# Altium integrated library capacitor_murata_0805.IntLib: 722 symbols (part 4 of 15)
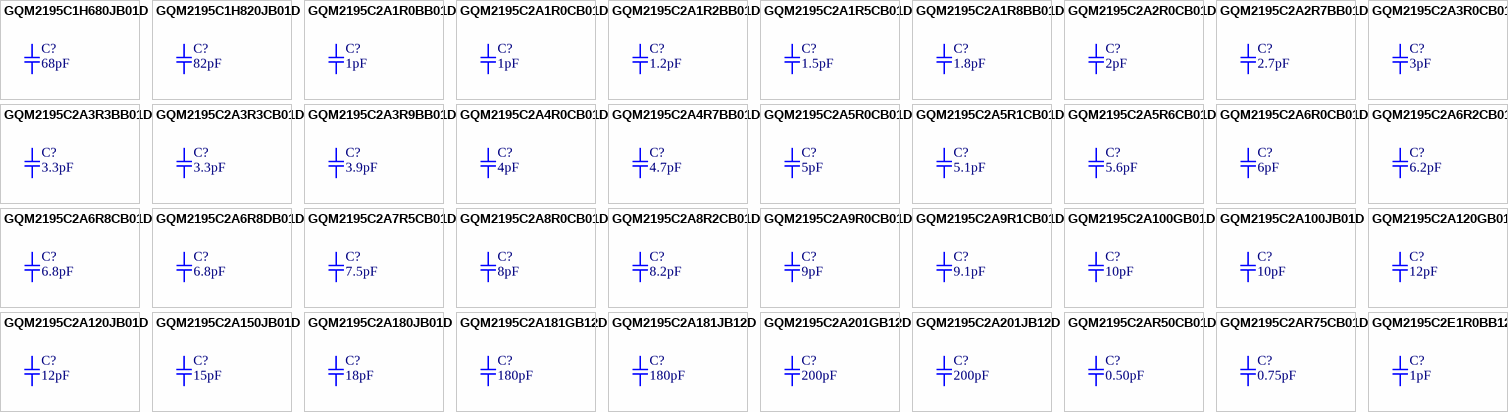
[diagram p21: symbols GQM2195C1H680JB01D to GQM2195C2E1R0BB12D]

## GQM2195C2A120JB01D
designator C?, comment 12pF
CAP CER 12PF 100V NP0 0805; Part Number: GQM2195C2A120JB01D; Manufacturer: Murata Electronics North America; Factory Stock: 0; Unit Price (USD): 0.91; Minimum Quantity: 1; Tolerance: ±5%; Temperature Coefficient: C0G, NP0; Datasheets: http://www.murata.com/~/media/webrenewal/support/library/catalog/products/capacitor/mlcc/c02e.pdf; Image: //media.digikey.com/Renders/Murata%20Renders/0805(GxM9).jpg; Digi-Key Part Number: 490-3604-1-ND; Quantity Available: 4092; @ qty: 0; Packaging: Cut Tape (CT); Series: GQM; Part Status: Active; Value: 12pF; Voltage: 100V; Operating Temperature: -55°C ~ 125°C; Features: High Q, Low Loss; Ratings: -; Applications: RF, Microwave, High Frequency; Mounting Type: Surface Mount, MLCC; Package / Case: 0805 (2012 Metric); Size / Dimension: 0.079" L x 0.049" W (2.00mm x 1.25mm); Height - Seated (Max): -; Thickness (Max): 0.037" (0.95mm); Lead Spacing: -; Lead Style: -
footprint SMD-0805C
pins: 1, 2

## GQM2195C2A150JB01D
designator C?, comment 15pF
CAP CER 15PF 100V NP0 0805; Part Number: GQM2195C2A150JB01D; Manufacturer: Murata Electronics North America; Factory Stock: 0; Unit Price (USD): 0.91; Minimum Quantity: 1; Tolerance: ±5%; Temperature Coefficient: C0G, NP0; Datasheets: http://www.murata.com/~/media/webrenewal/support/library/catalog/products/capacitor/mlcc/c02e.pdf; Image: //media.digikey.com/Renders/Murata%20Renders/0805(GxM9).jpg; Digi-Key Part Number: 490-3605-1-ND; Quantity Available: 6483; @ qty: 0; Packaging: Cut Tape (CT); Series: GQM; Part Status: Active; Value: 15pF; Voltage: 100V; Operating Temperature: -55°C ~ 125°C; Features: High Q, Low Loss; Ratings: -; Applications: RF, Microwave, High Frequency; Mounting Type: Surface Mount, MLCC; Package / Case: 0805 (2012 Metric); Size / Dimension: 0.079" L x 0.049" W (2.00mm x 1.25mm); Height - Seated (Max): -; Thickness (Max): 0.037" (0.95mm); Lead Spacing: -; Lead Style: -
footprint SMD-0805C
pins: 1, 2

## GQM2195C2A180JB01D
designator C?, comment 18pF
CAP CER 18PF 100V NP0 0805; Part Number: GQM2195C2A180JB01D; Manufacturer: Murata Electronics North America; Factory Stock: 0; Unit Price (USD): 0.91; Minimum Quantity: 1; Tolerance: ±5%; Temperature Coefficient: C0G, NP0; Datasheets: http://www.murata.com/~/media/webrenewal/support/library/catalog/products/capacitor/mlcc/c02e.pdf; Image: //media.digikey.com/Renders/Murata%20Renders/0805(GxM9).jpg; Digi-Key Part Number: 490-3606-1-ND; Quantity Available: 8724; @ qty: 0; Packaging: Cut Tape (CT); Series: GQM; Part Status: Active; Value: 18pF; Voltage: 100V; Operating Temperature: -55°C ~ 125°C; Features: High Q, Low Loss; Ratings: -; Applications: RF, Microwave, High Frequency; Mounting Type: Surface Mount, MLCC; Package / Case: 0805 (2012 Metric); Size / Dimension: 0.079" L x 0.049" W (2.00mm x 1.25mm); Height - Seated (Max): -; Thickness (Max): 0.037" (0.95mm); Lead Spacing: -; Lead Style: -
footprint SMD-0805C
pins: 1, 2

## GQM2195C2A181GB12D
designator C?, comment 180pF
CAP CER 180PF 100V NP0 0805; Part Number: GQM2195C2A181GB12D; Manufacturer: Murata Electronics North America; Factory Stock: 0; Unit Price (USD): 1.44; Minimum Quantity: 1; Tolerance: ±2%; Temperature Coefficient: C0G, NP0; Datasheets: http://www.murata.com/~/media/webrenewal/support/library/catalog/products/capacitor/mlcc/c02e.pdf; Image: //media.digikey.com/Renders/Murata%20Renders/0805(GxM9).jpg; Digi-Key Part Number: 490-7180-1-ND; Quantity Available: 7523; @ qty: 0; Packaging: Cut Tape (CT); Series: GQM; Part Status: Active; Value: 180pF; Voltage: 100V; Operating Temperature: -55°C ~ 125°C; Features: High Q, Low Loss; Ratings: -; Applications: RF, Microwave, High Frequency; Mounting Type: Surface Mount, MLCC; Package / Case: 0805 (2012 Metric); Size / Dimension: 0.079" L x 0.049" W (2.01mm x 1.25mm); Height - Seated (Max): -; Thickness (Max): 0.037" (0.95mm); Lead Spacing: -; Lead Style: -
footprint SMD-0805C
pins: 1, 2

## GQM2195C2A181JB12D
designator C?, comment 180pF
CAP CER 180PF 100V NP0 0805; Part Number: GQM2195C2A181JB12D; Manufacturer: Murata Electronics North America; Factory Stock: 0; Unit Price (USD): 0.83; Minimum Quantity: 1; Tolerance: ±5%; Temperature Coefficient: C0G, NP0; Datasheets: http://www.murata.com/~/media/webrenewal/support/library/catalog/products/capacitor/mlcc/c02e.pdf; Image: //media.digikey.com/Renders/Murata%20Renders/0805(GxM9).jpg; Digi-Key Part Number: 490-7181-1-ND; Quantity Available: 3110; @ qty: 0; Packaging: Cut Tape (CT); Series: GQM; Part Status: Active; Value: 180pF; Voltage: 100V; Operating Temperature: -55°C ~ 125°C; Features: High Q, Low Loss; Ratings: -; Applications: RF, Microwave, High Frequency; Mounting Type: Surface Mount, MLCC; Package / Case: 0805 (2012 Metric); Size / Dimension: 0.079" L x 0.049" W (2.01mm x 1.25mm); Height - Seated (Max): -; Thickness (Max): 0.037" (0.95mm); Lead Spacing: -; Lead Style: -
footprint SMD-0805C
pins: 1, 2

## GQM2195C2A201GB12D
designator C?, comment 200pF
CAP CER 200PF 100V NP0 0805; Part Number: GQM2195C2A201GB12D; Manufacturer: Murata Electronics North America; Factory Stock: 0; Unit Price (USD): 1.44; Minimum Quantity: 1; Tolerance: ±2%; Temperature Coefficient: C0G, NP0; Datasheets: http://www.murata.com/~/media/webrenewal/support/library/catalog/products/capacitor/mlcc/c02e.pdf; Image: //media.digikey.com/Renders/Murata%20Renders/0805(GxM9).jpg; Digi-Key Part Number: 490-7182-1-ND; Quantity Available: 6063; @ qty: 0; Packaging: Cut Tape (CT); Series: GQM; Part Status: Active; Value: 200pF; Voltage: 100V; Operating Temperature: -55°C ~ 125°C; Features: High Q, Low Loss; Ratings: -; Applications: RF, Microwave, High Frequency; Mounting Type: Surface Mount, MLCC; Package / Case: 0805 (2012 Metric); Size / Dimension: 0.079" L x 0.049" W (2.01mm x 1.25mm); Height - Seated (Max): -; Thickness (Max): 0.037" (0.95mm); Lead Spacing: -; Lead Style: -
footprint SMD-0805C
pins: 1, 2

## GQM2195C2A201JB12D
designator C?, comment 200pF
CAP CER 200PF 100V NP0 0805; Part Number: GQM2195C2A201JB12D; Manufacturer: Murata Electronics North America; Factory Stock: 0; Unit Price (USD): 0.83; Minimum Quantity: 1; Tolerance: ±5%; Temperature Coefficient: C0G, NP0; Datasheets: http://www.murata.com/~/media/webrenewal/support/library/catalog/products/capacitor/mlcc/c02e.pdf; Image: //media.digikey.com/Renders/Murata%20Renders/0805(GxM9).jpg; Digi-Key Part Number: 490-7183-1-ND; Quantity Available: 6661; @ qty: 0; Packaging: Cut Tape (CT); Series: GQM; Part Status: Active; Value: 200pF; Voltage: 100V; Operating Temperature: -55°C ~ 125°C; Features: High Q, Low Loss; Ratings: -; Applications: RF, Microwave, High Frequency; Mounting Type: Surface Mount, MLCC; Package / Case: 0805 (2012 Metric); Size / Dimension: 0.079" L x 0.049" W (2.01mm x 1.25mm); Height - Seated (Max): -; Thickness (Max): 0.037" (0.95mm); Lead Spacing: -; Lead Style: -
footprint SMD-0805C
pins: 1, 2

## GQM2195C2AR50CB01D
designator C?, comment 0.50pF
CAP CER 0.5PF 100V NP0 0805; Part Number: GQM2195C2AR50CB01D; Manufacturer: Murata Electronics North America; Factory Stock: 0; Unit Price (USD): 0.71; Minimum Quantity: 1; Tolerance: ±0.25pF; Temperature Coefficient: C0G, NP0; Datasheets: http://www.murata.com/~/media/webrenewal/support/library/catalog/products/capacitor/mlcc/c02e.pdf; Image: //media.digikey.com/Renders/Murata%20Renders/0805(GxM9).jpg; Digi-Key Part Number: 490-3584-1-ND; Quantity Available: 1289; @ qty: 0; Packaging: Cut Tape (CT); Series: GQM; Part Status: Active; Value: 0.50pF; Voltage: 100V; Operating Temperature: -55°C ~ 125°C; Features: High Q, Low Loss; Ratings: -; Applications: RF, Microwave, High Frequency; Mounting Type: Surface Mount, MLCC; Package / Case: 0805 (2012 Metric); Size / Dimension: 0.079" L x 0.049" W (2.00mm x 1.25mm); Height - Seated (Max): -; Thickness (Max): 0.037" (0.95mm); Lead Spacing: -; Lead Style: -
footprint SMD-0805C
pins: 1, 2

## GQM2195C2AR75CB01D
designator C?, comment 0.75pF
CAP CER 0.75PF 100V NP0 0805; Part Number: GQM2195C2AR75CB01D; Manufacturer: Murata Electronics North America; Factory Stock: 0; Unit Price (USD): 0.71; Minimum Quantity: 1; Tolerance: ±0.25pF; Temperature Coefficient: C0G, NP0; Datasheets: http://www.murata.com/~/media/webrenewal/support/library/catalog/products/capacitor/mlcc/c02e.pdf; Image: //media.digikey.com/Renders/Murata%20Renders/0805(GxM9).jpg; Digi-Key Part Number: 490-3585-1-ND; Quantity Available: 7492; @ qty: 0; Packaging: Cut Tape (CT); Series: GQM; Part Status: Active; Value: 0.75pF; Voltage: 100V; Operating Temperature: -55°C ~ 125°C; Features: High Q, Low Loss; Ratings: -; Applications: RF, Microwave, High Frequency; Mounting Type: Surface Mount, MLCC; Package / Case: 0805 (2012 Metric); Size / Dimension: 0.079" L x 0.049" W (2.00mm x 1.25mm); Height - Seated (Max): -; Thickness (Max): 0.037" (0.95mm); Lead Spacing: -; Lead Style: -
footprint SMD-0805C
pins: 1, 2

## GQM2195C2E1R0BB12D
designator C?, comment 1pF
CAP CER 1PF 250V NP0 0805; Part Number: GQM2195C2E1R0BB12D; Manufacturer: Murata Electronics North America; Factory Stock: 0; Unit Price (USD): 1.37; Minimum Quantity: 1; Tolerance: ±0.1pF; Temperature Coefficient: C0G, NP0; Datasheets: http://www.murata.com/~/media/webrenewal/support/library/catalog/products/capacitor/mlcc/c02e.pdf; Image: //media.digikey.com/Renders/Murata%20Renders/0805(GxM9).jpg; Digi-Key Part Number: 490-5280-1-ND; Quantity Available: 9090; @ qty: 0; Packaging: Cut Tape (CT); Series: GQM; Part Status: Active; Value: 1pF; Voltage: 250V; Operating Temperature: -55°C ~ 125°C; Features: High Q, Low Loss; Ratings: -; Applications: RF, Microwave, High Frequency; Mounting Type: Surface Mount, MLCC; Package / Case: 0805 (2012 Metric); Size / Dimension: 0.079" L x 0.049" W (2.00mm x 1.25mm); Height - Seated (Max): -; Thickness (Max): 0.039" (1.00mm); Lead Spacing: -; Lead Style: -
footprint SMD-0805C
pins: 1, 2

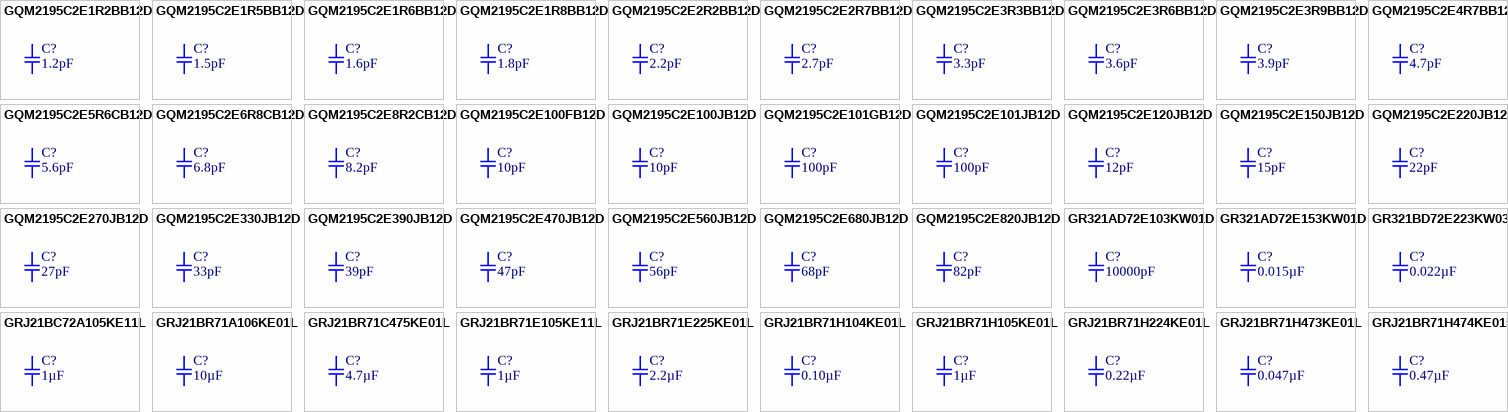
[diagram p4: symbols GQM2195C2E1R2BB12D to GRJ21BR71H474KE01L]

## GQM2195C2E1R2BB12D
designator C?, comment 1.2pF
CAP CER 1.2PF 250V NP0 0805; Part Number: GQM2195C2E1R2BB12D; Manufacturer: Murata Electronics North America; Factory Stock: 0; Unit Price (USD): 1.37; Minimum Quantity: 1; Tolerance: ±0.1pF; Temperature Coefficient: C0G, NP0; Datasheets: http://www.murata.com/~/media/webrenewal/support/library/catalog/products/capacitor/mlcc/c02e.pdf; Image: //media.digikey.com/Renders/Murata%20Renders/0805(GxM9).jpg; Digi-Key Part Number: 490-5281-1-ND; Quantity Available: 9953; @ qty: 0; Packaging: Cut Tape (CT); Series: GQM; Part Status: Active; Value: 1.2pF; Voltage: 250V; Operating Temperature: -55°C ~ 125°C; Features: High Q, Low Loss; Ratings: -; Applications: RF, Microwave, High Frequency; Mounting Type: Surface Mount, MLCC; Package / Case: 0805 (2012 Metric); Size / Dimension: 0.079" L x 0.049" W (2.00mm x 1.25mm); Height - Seated (Max): -; Thickness (Max): 0.039" (1.00mm); Lead Spacing: -; Lead Style: -
footprint SMD-0805C
pins: 1, 2

## GQM2195C2E1R5BB12D
designator C?, comment 1.5pF
CAP CER 1.5PF 250V NP0 0805; Part Number: GQM2195C2E1R5BB12D; Manufacturer: Murata Electronics North America; Factory Stock: 0; Unit Price (USD): 1.37; Minimum Quantity: 1; Tolerance: ±0.1pF; Temperature Coefficient: C0G, NP0; Datasheets: http://www.murata.com/~/media/webrenewal/support/library/catalog/products/capacitor/mlcc/c02e.pdf; Image: //media.digikey.com/Renders/Murata%20Renders/0805(GxM9).jpg; Digi-Key Part Number: 490-5282-1-ND; Quantity Available: 5947; @ qty: 0; Packaging: Cut Tape (CT); Series: GQM; Part Status: Active; Value: 1.5pF; Voltage: 250V; Operating Temperature: -55°C ~ 125°C; Features: High Q, Low Loss; Ratings: -; Applications: RF, Microwave, High Frequency; Mounting Type: Surface Mount, MLCC; Package / Case: 0805 (2012 Metric); Size / Dimension: 0.079" L x 0.049" W (2.00mm x 1.25mm); Height - Seated (Max): -; Thickness (Max): 0.039" (1.00mm); Lead Spacing: -; Lead Style: -
footprint SMD-0805C
pins: 1, 2

## GQM2195C2E1R6BB12D
designator C?, comment 1.6pF
CAP CER 1.6PF 250V NP0 0805; Part Number: GQM2195C2E1R6BB12D; Manufacturer: Murata Electronics North America; Factory Stock: 0; Unit Price (USD): 1.37; Minimum Quantity: 1; Tolerance: ±0.1pF; Temperature Coefficient: C0G, NP0; Datasheets: http://www.murata.com/~/media/webrenewal/support/library/catalog/products/capacitor/mlcc/c02e.pdf; Image: //media.digikey.com/Renders/Murata%20Renders/0805(GxM9).jpg; Digi-Key Part Number: 490-5283-1-ND; Quantity Available: 3457; @ qty: 0; Packaging: Cut Tape (CT); Series: GQM; Part Status: Active; Value: 1.6pF; Voltage: 250V; Operating Temperature: -55°C ~ 125°C; Features: High Q, Low Loss; Ratings: -; Applications: RF, Microwave, High Frequency; Mounting Type: Surface Mount, MLCC; Package / Case: 0805 (2012 Metric); Size / Dimension: 0.079" L x 0.049" W (2.00mm x 1.25mm); Height - Seated (Max): -; Thickness (Max): 0.039" (1.00mm); Lead Spacing: -; Lead Style: -
footprint SMD-0805C
pins: 1, 2

## GQM2195C2E1R8BB12D
designator C?, comment 1.8pF
CAP CER 1.8PF 250V NP0 0805; Part Number: GQM2195C2E1R8BB12D; Manufacturer: Murata Electronics North America; Factory Stock: 0; Unit Price (USD): 1.37; Minimum Quantity: 1; Tolerance: ±0.1pF; Temperature Coefficient: C0G, NP0; Datasheets: http://www.murata.com/~/media/webrenewal/support/library/catalog/products/capacitor/mlcc/c02e.pdf; Image: //media.digikey.com/Renders/Murata%20Renders/0805(GxM9).jpg; Digi-Key Part Number: 490-5284-1-ND; Quantity Available: 7081; @ qty: 0; Packaging: Cut Tape (CT); Series: GQM; Part Status: Active; Value: 1.8pF; Voltage: 250V; Operating Temperature: -55°C ~ 125°C; Features: High Q, Low Loss; Ratings: -; Applications: RF, Microwave, High Frequency; Mounting Type: Surface Mount, MLCC; Package / Case: 0805 (2012 Metric); Size / Dimension: 0.079" L x 0.049" W (2.00mm x 1.25mm); Height - Seated (Max): -; Thickness (Max): 0.039" (1.00mm); Lead Spacing: -; Lead Style: -
footprint SMD-0805C
pins: 1, 2

## GQM2195C2E2R2BB12D
designator C?, comment 2.2pF
CAP CER 2.2PF 250V NP0 0805; Part Number: GQM2195C2E2R2BB12D; Manufacturer: Murata Electronics North America; Factory Stock: 0; Unit Price (USD): 1.37; Minimum Quantity: 1; Tolerance: ±0.1pF; Temperature Coefficient: C0G, NP0; Datasheets: http://www.murata.com/~/media/webrenewal/support/library/catalog/products/capacitor/mlcc/c02e.pdf; Image: //media.digikey.com/Renders/Murata%20Renders/0805(GxM9).jpg; Digi-Key Part Number: 490-5285-1-ND; Quantity Available: 3672; @ qty: 0; Packaging: Cut Tape (CT); Series: GQM; Part Status: Active; Value: 2.2pF; Voltage: 250V; Operating Temperature: -55°C ~ 125°C; Features: High Q, Low Loss; Ratings: -; Applications: RF, Microwave, High Frequency; Mounting Type: Surface Mount, MLCC; Package / Case: 0805 (2012 Metric); Size / Dimension: 0.079" L x 0.049" W (2.00mm x 1.25mm); Height - Seated (Max): -; Thickness (Max): 0.039" (1.00mm); Lead Spacing: -; Lead Style: -
footprint SMD-0805C
pins: 1, 2

## GQM2195C2E2R7BB12D
designator C?, comment 2.7pF
CAP CER 2.7PF 250V NP0 0805; Part Number: GQM2195C2E2R7BB12D; Manufacturer: Murata Electronics North America; Factory Stock: 0; Unit Price (USD): 1.37; Minimum Quantity: 1; Tolerance: ±0.1pF; Temperature Coefficient: C0G, NP0; Datasheets: http://www.murata.com/~/media/webrenewal/support/library/catalog/products/capacitor/mlcc/c02e.pdf; Image: //media.digikey.com/Renders/Murata%20Renders/0805(GxM9).jpg; Digi-Key Part Number: 490-5286-1-ND; Quantity Available: 12077; @ qty: 0; Packaging: Cut Tape (CT); Series: GQM; Part Status: Active; Value: 2.7pF; Voltage: 250V; Operating Temperature: -55°C ~ 125°C; Features: High Q, Low Loss; Ratings: -; Applications: RF, Microwave, High Frequency; Mounting Type: Surface Mount, MLCC; Package / Case: 0805 (2012 Metric); Size / Dimension: 0.079" L x 0.049" W (2.00mm x 1.25mm); Height - Seated (Max): -; Thickness (Max): 0.039" (1.00mm); Lead Spacing: -; Lead Style: -
footprint SMD-0805C
pins: 1, 2

## GQM2195C2E3R3BB12D
designator C?, comment 3.3pF
CAP CER 3.3PF 250V NP0 0805; Part Number: GQM2195C2E3R3BB12D; Manufacturer: Murata Electronics North America; Factory Stock: 0; Unit Price (USD): 1.37; Minimum Quantity: 1; Tolerance: ±0.1pF; Temperature Coefficient: C0G, NP0; Datasheets: http://www.murata.com/~/media/webrenewal/support/library/catalog/products/capacitor/mlcc/c02e.pdf; Image: //media.digikey.com/Renders/Murata%20Renders/0805(GxM9).jpg; Digi-Key Part Number: 490-5287-1-ND; Quantity Available: 12014; @ qty: 0; Packaging: Cut Tape (CT); Series: GQM; Part Status: Active; Value: 3.3pF; Voltage: 250V; Operating Temperature: -55°C ~ 125°C; Features: High Q, Low Loss; Ratings: -; Applications: RF, Microwave, High Frequency; Mounting Type: Surface Mount, MLCC; Package / Case: 0805 (2012 Metric); Size / Dimension: 0.079" L x 0.049" W (2.00mm x 1.25mm); Height - Seated (Max): -; Thickness (Max): 0.039" (1.00mm); Lead Spacing: -; Lead Style: -
footprint SMD-0805C
pins: 1, 2

## GQM2195C2E3R6BB12D
designator C?, comment 3.6pF
CAP CER 3.6PF 250V NP0 0805; Part Number: GQM2195C2E3R6BB12D; Manufacturer: Murata Electronics North America; Factory Stock: 0; Unit Price (USD): 1.37; Minimum Quantity: 1; Tolerance: ±0.1pF; Temperature Coefficient: C0G, NP0; Datasheets: http://www.murata.com/~/media/webrenewal/support/library/catalog/products/capacitor/mlcc/c02e.pdf; Image: //media.digikey.com/Renders/Murata%20Renders/0805(GxM9).jpg; Digi-Key Part Number: 490-5288-1-ND; Quantity Available: 4695; @ qty: 0; Packaging: Cut Tape (CT); Series: GQM; Part Status: Active; Value: 3.6pF; Voltage: 250V; Operating Temperature: -55°C ~ 125°C; Features: High Q, Low Loss; Ratings: -; Applications: RF, Microwave, High Frequency; Mounting Type: Surface Mount, MLCC; Package / Case: 0805 (2012 Metric); Size / Dimension: 0.079" L x 0.049" W (2.00mm x 1.25mm); Height - Seated (Max): -; Thickness (Max): 0.039" (1.00mm); Lead Spacing: -; Lead Style: -
footprint SMD-0805C
pins: 1, 2

## GQM2195C2E3R9BB12D
designator C?, comment 3.9pF
CAP CER 3.9PF 250V NP0 0805; Part Number: GQM2195C2E3R9BB12D; Manufacturer: Murata Electronics North America; Factory Stock: 0; Unit Price (USD): 1.37; Minimum Quantity: 1; Tolerance: ±0.1pF; Temperature Coefficient: C0G, NP0; Datasheets: http://www.murata.com/~/media/webrenewal/support/library/catalog/products/capacitor/mlcc/c02e.pdf; Image: //media.digikey.com/Renders/Murata%20Renders/0805(GxM9).jpg; Digi-Key Part Number: 490-5289-1-ND; Quantity Available: 3639; @ qty: 0; Packaging: Cut Tape (CT); Series: GQM; Part Status: Active; Value: 3.9pF; Voltage: 250V; Operating Temperature: -55°C ~ 125°C; Features: High Q, Low Loss; Ratings: -; Applications: RF, Microwave, High Frequency; Mounting Type: Surface Mount, MLCC; Package / Case: 0805 (2012 Metric); Size / Dimension: 0.079" L x 0.049" W (2.00mm x 1.25mm); Height - Seated (Max): -; Thickness (Max): 0.039" (1.00mm); Lead Spacing: -; Lead Style: -
footprint SMD-0805C
pins: 1, 2

## GQM2195C2E4R7BB12D
designator C?, comment 4.7pF
CAP CER 4.7PF 250V NP0 0805; Part Number: GQM2195C2E4R7BB12D; Manufacturer: Murata Electronics North America; Factory Stock: 0; Unit Price (USD): 1.37; Minimum Quantity: 1; Tolerance: ±0.1pF; Temperature Coefficient: C0G, NP0; Datasheets: http://www.murata.com/~/media/webrenewal/support/library/catalog/products/capacitor/mlcc/c02e.pdf; Image: //media.digikey.com/Renders/Murata%20Renders/0805(GxM9).jpg; Digi-Key Part Number: 490-5290-1-ND; Quantity Available: 5380; @ qty: 0; Packaging: Cut Tape (CT); Series: GQM; Part Status: Active; Value: 4.7pF; Voltage: 250V; Operating Temperature: -55°C ~ 125°C; Features: High Q, Low Loss; Ratings: -; Applications: RF, Microwave, High Frequency; Mounting Type: Surface Mount, MLCC; Package / Case: 0805 (2012 Metric); Size / Dimension: 0.079" L x 0.049" W (2.00mm x 1.25mm); Height - Seated (Max): -; Thickness (Max): 0.039" (1.00mm); Lead Spacing: -; Lead Style: -
footprint SMD-0805C
pins: 1, 2

## GQM2195C2E5R6CB12D
designator C?, comment 5.6pF
CAP CER 5.6PF 250V NP0 0805; Part Number: GQM2195C2E5R6CB12D; Manufacturer: Murata Electronics North America; Factory Stock: 0; Unit Price (USD): 0.92; Minimum Quantity: 1; Tolerance: ±0.25pF; Temperature Coefficient: C0G, NP0; Datasheets: http://www.murata.com/~/media/webrenewal/support/library/catalog/products/capacitor/mlcc/c02e.pdf; Image: //media.digikey.com/Renders/Murata%20Renders/0805(GxM9).jpg; Digi-Key Part Number: 490-5291-1-ND; Quantity Available: 6165; @ qty: 0; Packaging: Cut Tape (CT); Series: GQM; Part Status: Active; Value: 5.6pF; Voltage: 250V; Operating Temperature: -55°C ~ 125°C; Features: High Q, Low Loss; Ratings: -; Applications: RF, Microwave, High Frequency; Mounting Type: Surface Mount, MLCC; Package / Case: 0805 (2012 Metric); Size / Dimension: 0.079" L x 0.049" W (2.00mm x 1.25mm); Height - Seated (Max): -; Thickness (Max): 0.039" (1.00mm); Lead Spacing: -; Lead Style: -
footprint SMD-0805C
pins: 1, 2

## GQM2195C2E6R8CB12D
designator C?, comment 6.8pF
CAP CER 6.8PF 250V NP0 0805; Part Number: GQM2195C2E6R8CB12D; Manufacturer: Murata Electronics North America; Factory Stock: 0; Unit Price (USD): 0.92; Minimum Quantity: 1; Tolerance: ±0.25pF; Temperature Coefficient: C0G, NP0; Datasheets: http://www.murata.com/~/media/webrenewal/support/library/catalog/products/capacitor/mlcc/c02e.pdf; Image: //media.digikey.com/Renders/Murata%20Renders/0805(GxM9).jpg; Digi-Key Part Number: 490-5292-1-ND; Quantity Available: 10344; @ qty: 0; Packaging: Cut Tape (CT); Series: GQM; Part Status: Active; Value: 6.8pF; Voltage: 250V; Operating Temperature: -55°C ~ 125°C; Features: High Q, Low Loss; Ratings: -; Applications: RF, Microwave, High Frequency; Mounting Type: Surface Mount, MLCC; Package / Case: 0805 (2012 Metric); Size / Dimension: 0.079" L x 0.049" W (2.00mm x 1.25mm); Height - Seated (Max): -; Thickness (Max): 0.039" (1.00mm); Lead Spacing: -; Lead Style: -
footprint SMD-0805C
pins: 1, 2

## GQM2195C2E8R2CB12D
designator C?, comment 8.2pF
CAP CER 8.2PF 250V NP0 0805; Part Number: GQM2195C2E8R2CB12D; Manufacturer: Murata Electronics North America; Factory Stock: 0; Unit Price (USD): 1.01; Minimum Quantity: 1; Tolerance: ±0.25pF; Temperature Coefficient: C0G, NP0; Datasheets: http://www.murata.com/~/media/webrenewal/support/library/catalog/products/capacitor/mlcc/c02e.pdf; Image: //media.digikey.com/Renders/Murata%20Renders/0805(GxM9).jpg; Digi-Key Part Number: 490-5293-1-ND; Quantity Available: 8361; @ qty: 0; Packaging: Cut Tape (CT); Series: GQM; Part Status: Active; Value: 8.2pF; Voltage: 250V; Operating Temperature: -55°C ~ 125°C; Features: High Q, Low Loss; Ratings: -; Applications: RF, Microwave, High Frequency; Mounting Type: Surface Mount, MLCC; Package / Case: 0805 (2012 Metric); Size / Dimension: 0.079" L x 0.049" W (2.00mm x 1.25mm); Height - Seated (Max): -; Thickness (Max): 0.039" (1.00mm); Lead Spacing: -; Lead Style: -
footprint SMD-0805C
pins: 1, 2

## GQM2195C2E100FB12D
designator C?, comment 10pF
CAP CER 10PF 250V NP0 0805; Part Number: GQM2195C2E100FB12D; Manufacturer: Murata Electronics North America; Factory Stock: 0; Unit Price (USD): 1.49; Minimum Quantity: 1; Tolerance: ±1%; Temperature Coefficient: C0G, NP0; Datasheets: http://www.murata.com/~/media/webrenewal/support/library/catalog/products/capacitor/mlcc/c02e.pdf; Image: //media.digikey.com/Renders/Murata%20Renders/0805(GxM9).jpg; Digi-Key Part Number: 490-11280-1-ND; Quantity Available: 1742; @ qty: 0; Packaging: Cut Tape (CT); Series: GQM; Part Status: Active; Value: 10pF; Voltage: 250V; Operating Temperature: -55°C ~ 125°C; Features: High Q, Low Loss; Ratings: -; Applications: RF, Microwave, High Frequency; Mounting Type: Surface Mount, MLCC; Package / Case: 0805 (2012 Metric); Size / Dimension: 0.079" L x 0.049" W (2.00mm x 1.25mm); Height - Seated (Max): -; Thickness (Max): 0.037" (0.95mm); Lead Spacing: -; Lead Style: -
footprint SMD-0805C
pins: 1, 2

## GQM2195C2E100JB12D
designator C?, comment 10pF
CAP CER 10PF 250V NP0 0805; Part Number: GQM2195C2E100JB12D; Manufacturer: Murata Electronics North America; Factory Stock: 0; Unit Price (USD): 1.01; Minimum Quantity: 1; Tolerance: ±5%; Temperature Coefficient: C0G, NP0; Datasheets: http://www.murata.com/~/media/webrenewal/support/library/catalog/products/capacitor/mlcc/c02e.pdf; Image: //media.digikey.com/Renders/Murata%20Renders/0805(GxM9).jpg; Digi-Key Part Number: 490-5294-1-ND; Quantity Available: 1713; @ qty: 0; Packaging: Cut Tape (CT); Series: GQM; Part Status: Active; Value: 10pF; Voltage: 250V; Operating Temperature: -55°C ~ 125°C; Features: High Q, Low Loss; Ratings: -; Applications: RF, Microwave, High Frequency; Mounting Type: Surface Mount, MLCC; Package / Case: 0805 (2012 Metric); Size / Dimension: 0.079" L x 0.049" W (2.00mm x 1.25mm); Height - Seated (Max): -; Thickness (Max): 0.039" (1.00mm); Lead Spacing: -; Lead Style: -
footprint SMD-0805C
pins: 1, 2

## GQM2195C2E101GB12D
designator C?, comment 100pF
CAP CER 100PF 250V NP0 0805; Part Number: GQM2195C2E101GB12D; Manufacturer: Murata Electronics North America; Factory Stock: 0; Unit Price (USD): 2.31; Minimum Quantity: 1; Tolerance: ±2%; Temperature Coefficient: C0G, NP0; Datasheets: http://www.murata.com/~/media/webrenewal/support/library/catalog/products/capacitor/mlcc/c02e.pdf; Image: //media.digikey.com/Renders/Murata%20Renders/0805(GxM9).jpg; Digi-Key Part Number: 490-12671-1-ND; Quantity Available: 40; @ qty: 0; Packaging: Cut Tape (CT); Series: GQM; Part Status: Active; Value: 100pF; Voltage: 250V; Operating Temperature: -55°C ~ 125°C; Features: High Q, Low Loss; Ratings: -; Applications: RF, Microwave, High Frequency; Mounting Type: Surface Mount, MLCC; Package / Case: 0805 (2012 Metric); Size / Dimension: 0.079" L x 0.049" W (2.00mm x 1.25mm); Height - Seated (Max): -; Thickness (Max): 0.039" (1.00mm); Lead Spacing: -; Lead Style: -
footprint SMD-0805C
pins: 1, 2

## GQM2195C2E101JB12D
designator C?, comment 100pF
CAP CER 100PF 250V NP0 0805; Part Number: GQM2195C2E101JB12D; Manufacturer: Murata Electronics North America; Factory Stock: 0; Unit Price (USD): 1.19; Minimum Quantity: 1; Tolerance: ±5%; Temperature Coefficient: C0G, NP0; Datasheets: http://www.murata.com/~/media/webrenewal/support/library/catalog/products/capacitor/mlcc/c02e.pdf; Image: //media.digikey.com/Renders/Murata%20Renders/0805(GxM9).jpg; Digi-Key Part Number: 490-5306-1-ND; Quantity Available: 5263; @ qty: 0; Packaging: Cut Tape (CT); Series: GQM; Part Status: Active; Value: 100pF; Voltage: 250V; Operating Temperature: -55°C ~ 125°C; Features: High Q, Low Loss; Ratings: -; Applications: RF, Microwave, High Frequency; Mounting Type: Surface Mount, MLCC; Package / Case: 0805 (2012 Metric); Size / Dimension: 0.079" L x 0.049" W (2.00mm x 1.25mm); Height - Seated (Max): -; Thickness (Max): 0.039" (1.00mm); Lead Spacing: -; Lead Style: -
footprint SMD-0805C
pins: 1, 2

## GQM2195C2E120JB12D
designator C?, comment 12pF
CAP CER 12PF 250V NP0 0805; Part Number: GQM2195C2E120JB12D; Manufacturer: Murata Electronics North America; Factory Stock: 0; Unit Price (USD): 1.19; Minimum Quantity: 1; Tolerance: ±5%; Temperature Coefficient: C0G, NP0; Datasheets: http://www.murata.com/~/media/webrenewal/support/library/catalog/products/capacitor/mlcc/c02e.pdf; Image: //media.digikey.com/Renders/Murata%20Renders/0805(GxM9).jpg; Digi-Key Part Number: 490-5295-1-ND; Quantity Available: 2195; @ qty: 0; Packaging: Cut Tape (CT); Series: GQM; Part Status: Active; Value: 12pF; Voltage: 250V; Operating Temperature: -55°C ~ 125°C; Features: High Q, Low Loss; Ratings: -; Applications: RF, Microwave, High Frequency; Mounting Type: Surface Mount, MLCC; Package / Case: 0805 (2012 Metric); Size / Dimension: 0.079" L x 0.049" W (2.00mm x 1.25mm); Height - Seated (Max): -; Thickness (Max): 0.039" (1.00mm); Lead Spacing: -; Lead Style: -
footprint SMD-0805C
pins: 1, 2

## GQM2195C2E150JB12D
designator C?, comment 15pF
CAP CER 15PF 250V NP0 0805; Part Number: GQM2195C2E150JB12D; Manufacturer: Murata Electronics North America; Factory Stock: 0; Unit Price (USD): 1.19; Minimum Quantity: 1; Tolerance: ±5%; Temperature Coefficient: C0G, NP0; Datasheets: http://www.murata.com/~/media/webrenewal/support/library/catalog/products/capacitor/mlcc/c02e.pdf; Image: //media.digikey.com/Renders/Murata%20Renders/0805(GxM9).jpg; Digi-Key Part Number: 490-5296-1-ND; Quantity Available: 2809; @ qty: 0; Packaging: Cut Tape (CT); Series: GQM; Part Status: Active; Value: 15pF; Voltage: 250V; Operating Temperature: -55°C ~ 125°C; Features: High Q, Low Loss; Ratings: -; Applications: RF, Microwave, High Frequency; Mounting Type: Surface Mount, MLCC; Package / Case: 0805 (2012 Metric); Size / Dimension: 0.079" L x 0.049" W (2.00mm x 1.25mm); Height - Seated (Max): -; Thickness (Max): 0.039" (1.00mm); Lead Spacing: -; Lead Style: -
footprint SMD-0805C
pins: 1, 2

## GQM2195C2E220JB12D
designator C?, comment 22pF
CAP CER 22PF 250V NP0 0805; Part Number: GQM2195C2E220JB12D; Manufacturer: Murata Electronics North America; Factory Stock: 0; Unit Price (USD): 1.19; Minimum Quantity: 1; Tolerance: ±5%; Temperature Coefficient: C0G, NP0; Datasheets: http://www.murata.com/~/media/webrenewal/support/library/catalog/products/capacitor/mlcc/c02e.pdf; Image: //media.digikey.com/Renders/Murata%20Renders/0805(GxM9).jpg; Digi-Key Part Number: 490-5298-1-ND; Quantity Available: 4877; @ qty: 0; Packaging: Cut Tape (CT); Series: GQM; Part Status: Active; Value: 22pF; Voltage: 250V; Operating Temperature: -55°C ~ 125°C; Features: High Q, Low Loss; Ratings: -; Applications: RF, Microwave, High Frequency; Mounting Type: Surface Mount, MLCC; Package / Case: 0805 (2012 Metric); Size / Dimension: 0.079" L x 0.049" W (2.00mm x 1.25mm); Height - Seated (Max): -; Thickness (Max): 0.039" (1.00mm); Lead Spacing: -; Lead Style: -
footprint SMD-0805C
pins: 1, 2

## GQM2195C2E270JB12D
designator C?, comment 27pF
CAP CER 27PF 250V NP0 0805; Part Number: GQM2195C2E270JB12D; Manufacturer: Murata Electronics North America; Factory Stock: 0; Unit Price (USD): 1.19; Minimum Quantity: 1; Tolerance: ±5%; Temperature Coefficient: C0G, NP0; Datasheets: http://www.murata.com/~/media/webrenewal/support/library/catalog/products/capacitor/mlcc/c02e.pdf; Image: //media.digikey.com/Renders/Murata%20Renders/0805(GxM9).jpg; Digi-Key Part Number: 490-5299-1-ND; Quantity Available: 9069; @ qty: 0; Packaging: Cut Tape (CT); Series: GQM; Part Status: Active; Value: 27pF; Voltage: 250V; Operating Temperature: -55°C ~ 125°C; Features: High Q, Low Loss; Ratings: -; Applications: RF, Microwave, High Frequency; Mounting Type: Surface Mount, MLCC; Package / Case: 0805 (2012 Metric); Size / Dimension: 0.079" L x 0.049" W (2.00mm x 1.25mm); Height - Seated (Max): -; Thickness (Max): 0.039" (1.00mm); Lead Spacing: -; Lead Style: -
footprint SMD-0805C
pins: 1, 2

## GQM2195C2E330JB12D
designator C?, comment 33pF
CAP CER 33PF 250V NP0 0805; Part Number: GQM2195C2E330JB12D; Manufacturer: Murata Electronics North America; Factory Stock: 0; Unit Price (USD): 1.19; Minimum Quantity: 1; Tolerance: ±5%; Temperature Coefficient: C0G, NP0; Datasheets: http://www.murata.com/~/media/webrenewal/support/library/catalog/products/capacitor/mlcc/c02e.pdf; Image: //media.digikey.com/Renders/Murata%20Renders/0805(GxM9).jpg; Digi-Key Part Number: 490-5300-1-ND; Quantity Available: 6983; @ qty: 0; Packaging: Cut Tape (CT); Series: GQM; Part Status: Active; Value: 33pF; Voltage: 250V; Operating Temperature: -55°C ~ 125°C; Features: High Q, Low Loss; Ratings: -; Applications: RF, Microwave, High Frequency; Mounting Type: Surface Mount, MLCC; Package / Case: 0805 (2012 Metric); Size / Dimension: 0.079" L x 0.049" W (2.00mm x 1.25mm); Height - Seated (Max): -; Thickness (Max): 0.039" (1.00mm); Lead Spacing: -; Lead Style: -
footprint SMD-0805C
pins: 1, 2

## GQM2195C2E390JB12D
designator C?, comment 39pF
CAP CER 39PF 250V NP0 0805; Part Number: GQM2195C2E390JB12D; Manufacturer: Murata Electronics North America; Factory Stock: 0; Unit Price (USD): 1.19; Minimum Quantity: 1; Tolerance: ±5%; Temperature Coefficient: C0G, NP0; Datasheets: http://www.murata.com/~/media/webrenewal/support/library/catalog/products/capacitor/mlcc/c02e.pdf; Image: //media.digikey.com/Renders/Murata%20Renders/0805(GxM9).jpg; Digi-Key Part Number: 490-5301-1-ND; Quantity Available: 4920; @ qty: 0; Packaging: Cut Tape (CT); Series: GQM; Part Status: Active; Value: 39pF; Voltage: 250V; Operating Temperature: -55°C ~ 125°C; Features: High Q, Low Loss; Ratings: -; Applications: RF, Microwave, High Frequency; Mounting Type: Surface Mount, MLCC; Package / Case: 0805 (2012 Metric); Size / Dimension: 0.079" L x 0.049" W (2.00mm x 1.25mm); Height - Seated (Max): -; Thickness (Max): 0.039" (1.00mm); Lead Spacing: -; Lead Style: -
footprint SMD-0805C
pins: 1, 2

## GQM2195C2E470JB12D
designator C?, comment 47pF
CAP CER 47PF 250V NP0 0805; Part Number: GQM2195C2E470JB12D; Manufacturer: Murata Electronics North America; Factory Stock: 0; Unit Price (USD): 1.19; Minimum Quantity: 1; Tolerance: ±5%; Temperature Coefficient: C0G, NP0; Datasheets: http://www.murata.com/~/media/webrenewal/support/library/catalog/products/capacitor/mlcc/c02e.pdf; Image: //media.digikey.com/Renders/Murata%20Renders/0805(GxM9).jpg; Digi-Key Part Number: 490-5302-1-ND; Quantity Available: 2367; @ qty: 0; Packaging: Cut Tape (CT); Series: GQM; Part Status: Active; Value: 47pF; Voltage: 250V; Operating Temperature: -55°C ~ 125°C; Features: High Q, Low Loss; Ratings: -; Applications: RF, Microwave, High Frequency; Mounting Type: Surface Mount, MLCC; Package / Case: 0805 (2012 Metric); Size / Dimension: 0.079" L x 0.049" W (2.00mm x 1.25mm); Height - Seated (Max): -; Thickness (Max): 0.039" (1.00mm); Lead Spacing: -; Lead Style: -
footprint SMD-0805C
pins: 1, 2

## GQM2195C2E560JB12D
designator C?, comment 56pF
CAP CER 56PF 250V NP0 0805; Part Number: GQM2195C2E560JB12D; Manufacturer: Murata Electronics North America; Factory Stock: 0; Unit Price (USD): 1.19; Minimum Quantity: 1; Tolerance: ±5%; Temperature Coefficient: C0G, NP0; Datasheets: http://www.murata.com/~/media/webrenewal/support/library/catalog/products/capacitor/mlcc/c02e.pdf; Image: //media.digikey.com/Renders/Murata%20Renders/0805(GxM9).jpg; Digi-Key Part Number: 490-5303-1-ND; Quantity Available: 7940; @ qty: 0; Packaging: Cut Tape (CT); Series: GQM; Part Status: Active; Value: 56pF; Voltage: 250V; Operating Temperature: -55°C ~ 125°C; Features: High Q, Low Loss; Ratings: -; Applications: RF, Microwave, High Frequency; Mounting Type: Surface Mount, MLCC; Package / Case: 0805 (2012 Metric); Size / Dimension: 0.079" L x 0.049" W (2.00mm x 1.25mm); Height - Seated (Max): -; Thickness (Max): 0.039" (1.00mm); Lead Spacing: -; Lead Style: -
footprint SMD-0805C
pins: 1, 2

## GQM2195C2E680JB12D
designator C?, comment 68pF
CAP CER 68PF 250V NP0 0805; Part Number: GQM2195C2E680JB12D; Manufacturer: Murata Electronics North America; Factory Stock: 0; Unit Price (USD): 1.19; Minimum Quantity: 1; Tolerance: ±5%; Temperature Coefficient: C0G, NP0; Datasheets: http://www.murata.com/~/media/webrenewal/support/library/catalog/products/capacitor/mlcc/c02e.pdf; Image: //media.digikey.com/Renders/Murata%20Renders/0805(GxM9).jpg; Digi-Key Part Number: 490-5304-1-ND; Quantity Available: 7482; @ qty: 0; Packaging: Cut Tape (CT); Series: GQM; Part Status: Active; Value: 68pF; Voltage: 250V; Operating Temperature: -55°C ~ 125°C; Features: High Q, Low Loss; Ratings: -; Applications: RF, Microwave, High Frequency; Mounting Type: Surface Mount, MLCC; Package / Case: 0805 (2012 Metric); Size / Dimension: 0.079" L x 0.049" W (2.00mm x 1.25mm); Height - Seated (Max): -; Thickness (Max): 0.039" (1.00mm); Lead Spacing: -; Lead Style: -
footprint SMD-0805C
pins: 1, 2

## GQM2195C2E820JB12D
designator C?, comment 82pF
CAP CER 82PF 250V NP0 0805; Part Number: GQM2195C2E820JB12D; Manufacturer: Murata Electronics North America; Factory Stock: 0; Unit Price (USD): 1.19; Minimum Quantity: 1; Tolerance: ±5%; Temperature Coefficient: C0G, NP0; Datasheets: http://www.murata.com/~/media/webrenewal/support/library/catalog/products/capacitor/mlcc/c02e.pdf; Image: //media.digikey.com/Renders/Murata%20Renders/0805(GxM9).jpg; Digi-Key Part Number: 490-5305-1-ND; Quantity Available: 532; @ qty: 0; Packaging: Cut Tape (CT); Series: GQM; Part Status: Active; Value: 82pF; Voltage: 250V; Operating Temperature: -55°C ~ 125°C; Features: High Q, Low Loss; Ratings: -; Applications: RF, Microwave, High Frequency; Mounting Type: Surface Mount, MLCC; Package / Case: 0805 (2012 Metric); Size / Dimension: 0.079" L x 0.049" W (2.00mm x 1.25mm); Height - Seated (Max): -; Thickness (Max): 0.039" (1.00mm); Lead Spacing: -; Lead Style: -
footprint SMD-0805C
pins: 1, 2

## GR321AD72E103KW01D
designator C?, comment 10000pF
CAP CER 10000PF 250V X7T 0805; Part Number: GR321AD72E103KW01D; Manufacturer: Murata Electronics North America; Factory Stock: 0; Unit Price (USD): 0.38; Minimum Quantity: 1; Tolerance: ±10%; Datasheets: http://www.murata.com/~/media/webrenewal/support/library/catalog/products/capacitor/mlcc/c02e.pdf; Image: //media.digikey.com/Renders/Murata%20Renders/0805%20(2012%20Metric)%20.85mm.jpg; Digi-Key Part Number: 490-5717-1-ND; Quantity Available: 5652; @ qty: 0; Packaging: Cut Tape (CT); Series: GR3; Part Status: Active; Value: 10000pF; Voltage: 250V; Temperature Coefficient: X7T; Operating Temperature: -55°C ~ 125°C; Features: -; Ratings: -; Applications: General Purpose; Mounting Type: Surface Mount, MLCC; Package / Case: 0805 (2012 Metric); Size / Dimension: 0.079" L x 0.049" W (2.00mm x 1.25mm); Height - Seated (Max): -; Thickness (Max): 0.039" (1.00mm); Lead Spacing: -; Lead Style: -
footprint SMD-0805C
pins: 1, 2

## GR321AD72E153KW01D
designator C?, comment 0.015µF
CAP CER 0.015UF 250V X7T 0805; Part Number: GR321AD72E153KW01D; Manufacturer: Murata Electronics North America; Factory Stock: 0; Unit Price (USD): 0.38; Minimum Quantity: 1; Tolerance: ±10%; Datasheets: http://www.murata.com/~/media/webrenewal/support/library/catalog/products/capacitor/mlcc/c02e.pdf; Image: //media.digikey.com/Renders/Murata%20Renders/0805%20(2012%20Metric)%20.85mm.jpg; Digi-Key Part Number: 490-5718-1-ND; Quantity Available: 9020; @ qty: 0; Packaging: Cut Tape (CT); Series: GR3; Part Status: Active; Value: 0.015µF; Voltage: 250V; Temperature Coefficient: X7T; Operating Temperature: -55°C ~ 125°C; Features: -; Ratings: -; Applications: General Purpose; Mounting Type: Surface Mount, MLCC; Package / Case: 0805 (2012 Metric); Size / Dimension: 0.079" L x 0.049" W (2.00mm x 1.25mm); Height - Seated (Max): -; Thickness (Max): 0.039" (1.00mm); Lead Spacing: -; Lead Style: -
footprint SMD-0805C
pins: 1, 2

## GR321BD72E223KW03L
designator C?, comment 0.022µF
CAP CER 0.022UF 250V X7T 0805; Part Number: GR321BD72E223KW03L; Manufacturer: Murata Electronics North America; Factory Stock: 0; Unit Price (USD): 0.34; Minimum Quantity: 1; Tolerance: ±10%; Datasheets: http://www.murata.com/~/media/webrenewal/support/library/catalog/products/capacitor/mlcc/c02e.pdf; Image: //media.digikey.com/Renders/Murata%20Renders/0805%20(2012%20Metric)%20.85mm.jpg; Digi-Key Part Number: 490-5719-1-ND; Quantity Available: 6928; @ qty: 0; Packaging: Cut Tape (CT); Series: GR3; Part Status: Active; Value: 0.022µF; Voltage: 250V; Temperature Coefficient: X7T; Operating Temperature: -55°C ~ 125°C; Features: -; Ratings: -; Applications: General Purpose; Mounting Type: Surface Mount, MLCC; Package / Case: 0805 (2012 Metric); Size / Dimension: 0.079" L x 0.049" W (2.00mm x 1.25mm); Height - Seated (Max): -; Thickness (Max): 0.057" (1.45mm); Lead Spacing: -; Lead Style: -
footprint SMD-0805C
pins: 1, 2

## GRJ21BC72A105KE11L
designator C?, comment 1µF
CAP CER 1UF 100V X7S 0805; Part Number: GRJ21BC72A105KE11L; Manufacturer: Murata Electronics North America; Factory Stock: 0; Unit Price (USD): 0.47; Minimum Quantity: 1; Tolerance: ±10%; Datasheets: http://www.murata.com/~/media/webrenewal/support/library/catalog/products/capacitor/mlcc/c02e.pdf; Image: //media.digikey.com/Renders/Murata%20Renders/0805%20(2012%20Metric)%20.85mm.jpg; Digi-Key Part Number: 490-10918-1-ND; Quantity Available: 16015; @ qty: 0; Packaging: Cut Tape (CT); Series: GRJ; Part Status: Active; Value: 1µF; Voltage: 100V; Temperature Coefficient: X7S; Operating Temperature: -55°C ~ 125°C; Features: Soft Termination; Ratings: -; Applications: Boardflex Sensitive; Mounting Type: Surface Mount, MLCC; Package / Case: 0805 (2012 Metric); Size / Dimension: 0.079" L x 0.049" W (2.00mm x 1.25mm); Height - Seated (Max): -; Thickness (Max): 0.057" (1.45mm); Lead Spacing: -; Lead Style: -
footprint SMD-0805C
pins: 1, 2

## GRJ21BR71A106KE01L
designator C?, comment 10µF
CAP CER 10UF 10V X7R 0805; Part Number: GRJ21BR71A106KE01L; Manufacturer: Murata Electronics North America; Factory Stock: 0; Unit Price (USD): 0.69; Minimum Quantity: 1; Tolerance: ±10%; Datasheets: http://www.murata.com/~/media/webrenewal/support/library/catalog/products/capacitor/mlcc/c02e.pdf; Image: //media.digikey.com/Renders/Murata%20Renders/0805%20(2012%20Metric)%20.85mm.jpg; Digi-Key Part Number: 490-10919-1-ND; Quantity Available: 6658; @ qty: 0; Packaging: Cut Tape (CT); Series: GRJ; Part Status: Active; Value: 10µF; Voltage: 10V; Temperature Coefficient: X7R; Operating Temperature: -55°C ~ 125°C; Features: Soft Termination; Ratings: -; Applications: Boardflex Sensitive; Mounting Type: Surface Mount, MLCC; Package / Case: 0805 (2012 Metric); Size / Dimension: 0.079" L x 0.049" W (2.00mm x 1.25mm); Height - Seated (Max): -; Thickness (Max): 0.057" (1.45mm); Lead Spacing: -; Lead Style: -
footprint SMD-0805C
pins: 1, 2

## GRJ21BR71C475KE01L
designator C?, comment 4.7µF
CAP CER 4.7UF 16V X7R 0805; Part Number: GRJ21BR71C475KE01L; Manufacturer: Murata Electronics North America; Factory Stock: 0; Unit Price (USD): 0.39; Minimum Quantity: 1; Tolerance: ±10%; Datasheets: http://www.murata.com/~/media/webrenewal/support/library/catalog/products/capacitor/mlcc/c02e.pdf; Image: //media.digikey.com/Renders/Murata%20Renders/0805%20(2012%20Metric)%20.85mm.jpg; Digi-Key Part Number: 490-10920-1-ND; Quantity Available: 1511; @ qty: 0; Packaging: Cut Tape (CT); Series: GRJ; Part Status: Active; Value: 4.7µF; Voltage: 16V; Temperature Coefficient: X7R; Operating Temperature: -55°C ~ 125°C; Features: Soft Termination; Ratings: -; Applications: Boardflex Sensitive; Mounting Type: Surface Mount, MLCC; Package / Case: 0805 (2012 Metric); Size / Dimension: 0.079" L x 0.049" W (2.00mm x 1.25mm); Height - Seated (Max): -; Thickness (Max): 0.057" (1.45mm); Lead Spacing: -; Lead Style: -
footprint SMD-0805C
pins: 1, 2

## GRJ21BR71E105KE11L
designator C?, comment 1µF
CAP CER 1UF 25V X7R 0805; Part Number: GRJ21BR71E105KE11L; Manufacturer: Murata Electronics North America; Factory Stock: 0; Unit Price (USD): 0.23; Minimum Quantity: 1; Tolerance: ±10%; Datasheets: http://www.murata.com/~/media/webrenewal/support/library/catalog/products/capacitor/mlcc/c02e.pdf; Image: //media.digikey.com/Renders/Murata%20Renders/0805%20(2012%20Metric)%20.85mm.jpg; Digi-Key Part Number: 490-10921-1-ND; Quantity Available: 4470; @ qty: 0; Packaging: Cut Tape (CT); Series: GRJ; Part Status: Active; Value: 1µF; Voltage: 25V; Temperature Coefficient: X7R; Operating Temperature: -55°C ~ 125°C; Features: Soft Termination; Ratings: -; Applications: Boardflex Sensitive; Mounting Type: Surface Mount, MLCC; Package / Case: 0805 (2012 Metric); Size / Dimension: 0.079" L x 0.049" W (2.00mm x 1.25mm); Height - Seated (Max): -; Thickness (Max): 0.057" (1.45mm); Lead Spacing: -; Lead Style: -
footprint SMD-0805C
pins: 1, 2

## GRJ21BR71E225KE01L
designator C?, comment 2.2µF
CAP CER 2.2UF 25V X7R 0805; Part Number: GRJ21BR71E225KE01L; Manufacturer: Murata Electronics North America; Factory Stock: 0; Unit Price (USD): 0.42; Minimum Quantity: 1; Tolerance: ±10%; Datasheets: http://www.murata.com/~/media/webrenewal/support/library/catalog/products/capacitor/mlcc/c02e.pdf; Image: //media.digikey.com/Renders/Murata%20Renders/0805%20(2012%20Metric)%20.85mm.jpg; Digi-Key Part Number: 490-10922-1-ND; Quantity Available: 31990; @ qty: 0; Packaging: Cut Tape (CT); Series: GRJ; Part Status: Active; Value: 2.2µF; Voltage: 25V; Temperature Coefficient: X7R; Operating Temperature: -55°C ~ 125°C; Features: Soft Termination; Ratings: -; Applications: Boardflex Sensitive; Mounting Type: Surface Mount, MLCC; Package / Case: 0805 (2012 Metric); Size / Dimension: 0.079" L x 0.049" W (2.00mm x 1.25mm); Height - Seated (Max): -; Thickness (Max): 0.057" (1.45mm); Lead Spacing: -; Lead Style: -
footprint SMD-0805C
pins: 1, 2

## GRJ21BR71H104KE01L
designator C?, comment 0.10µF
CAP CER 0.1UF 50V X7R 0805; Part Number: GRJ21BR71H104KE01L; Manufacturer: Murata Electronics North America; Factory Stock: 0; Unit Price (USD): 0.19; Minimum Quantity: 1; Tolerance: ±10%; Datasheets: http://www.murata.com/~/media/webrenewal/support/library/catalog/products/capacitor/mlcc/c02e.pdf; Image: //media.digikey.com/Renders/Murata%20Renders/0805%20(2012%20Metric)%20.85mm.jpg; Digi-Key Part Number: 490-10923-1-ND; Quantity Available: 3070; @ qty: 0; Packaging: Cut Tape (CT); Series: GRJ; Part Status: Active; Value: 0.10µF; Voltage: 50V; Temperature Coefficient: X7R; Operating Temperature: -55°C ~ 125°C; Features: Soft Termination; Ratings: -; Applications: Boardflex Sensitive; Mounting Type: Surface Mount, MLCC; Package / Case: 0805 (2012 Metric); Size / Dimension: 0.079" L x 0.049" W (2.00mm x 1.25mm); Height - Seated (Max): -; Thickness (Max): 0.057" (1.45mm); Lead Spacing: -; Lead Style: -
footprint SMD-0805C
pins: 1, 2

## GRJ21BR71H105KE01L
designator C?, comment 1µF
CAP CER 1UF 50V X7R 0805; Part Number: GRJ21BR71H105KE01L; Manufacturer: Murata Electronics North America; Factory Stock: 0; Unit Price (USD): 0.26; Minimum Quantity: 1; Tolerance: ±10%; Datasheets: http://www.murata.com/~/media/webrenewal/support/library/catalog/products/capacitor/mlcc/c02e.pdf; Image: //media.digikey.com/Renders/Murata%20Renders/0805%20(2012%20Metric)%20.85mm.jpg; Digi-Key Part Number: 490-10924-1-ND; Quantity Available: 2092; @ qty: 0; Packaging: Cut Tape (CT); Series: GRJ; Part Status: Active; Value: 1µF; Voltage: 50V; Temperature Coefficient: X7R; Operating Temperature: -55°C ~ 125°C; Features: Soft Termination; Ratings: -; Applications: Boardflex Sensitive; Mounting Type: Surface Mount, MLCC; Package / Case: 0805 (2012 Metric); Size / Dimension: 0.079" L x 0.049" W (2.00mm x 1.25mm); Height - Seated (Max): -; Thickness (Max): 0.057" (1.45mm); Lead Spacing: -; Lead Style: -
footprint SMD-0805C
pins: 1, 2

## GRJ21BR71H224KE01L
designator C?, comment 0.22µF
CAP CER 0.22UF 50V X7R 0805; Part Number: GRJ21BR71H224KE01L; Manufacturer: Murata Electronics North America; Factory Stock: 0; Unit Price (USD): 0.29; Minimum Quantity: 1; Tolerance: ±10%; Datasheets: http://www.murata.com/~/media/webrenewal/support/library/catalog/products/capacitor/mlcc/c02e.pdf; Image: //media.digikey.com/Renders/Murata%20Renders/0805%20(2012%20Metric)%20.85mm.jpg; Digi-Key Part Number: 490-10925-1-ND; Quantity Available: 5750; @ qty: 0; Packaging: Cut Tape (CT); Series: GRJ; Part Status: Active; Value: 0.22µF; Voltage: 50V; Temperature Coefficient: X7R; Operating Temperature: -55°C ~ 125°C; Features: Soft Termination; Ratings: -; Applications: Boardflex Sensitive; Mounting Type: Surface Mount, MLCC; Package / Case: 0805 (2012 Metric); Size / Dimension: 0.079" L x 0.049" W (2.00mm x 1.25mm); Height - Seated (Max): -; Thickness (Max): 0.057" (1.45mm); Lead Spacing: -; Lead Style: -
footprint SMD-0805C
pins: 1, 2

## GRJ21BR71H473KE01L
designator C?, comment 0.047µF
CAP CER 0.047UF 50V X7R 0805; Part Number: GRJ21BR71H473KE01L; Manufacturer: Murata Electronics North America; Factory Stock: 0; Unit Price (USD): 0.19; Minimum Quantity: 1; Tolerance: ±10%; Datasheets: http://www.murata.com/~/media/webrenewal/support/library/catalog/products/capacitor/mlcc/c02e.pdf; Image: //media.digikey.com/Renders/Murata%20Renders/0805%20(2012%20Metric)%20.85mm.jpg; Digi-Key Part Number: 490-10926-1-ND; Quantity Available: 5980; @ qty: 0; Packaging: Cut Tape (CT); Series: GRJ; Part Status: Active; Value: 0.047µF; Voltage: 50V; Temperature Coefficient: X7R; Operating Temperature: -55°C ~ 125°C; Features: Soft Termination; Ratings: -; Applications: Boardflex Sensitive; Mounting Type: Surface Mount, MLCC; Package / Case: 0805 (2012 Metric); Size / Dimension: 0.079" L x 0.049" W (2.00mm x 1.25mm); Height - Seated (Max): -; Thickness (Max): 0.057" (1.45mm); Lead Spacing: -; Lead Style: -
footprint SMD-0805C
pins: 1, 2

## GRJ21BR71H474KE01L
designator C?, comment 0.47µF
CAP CER 0.47UF 50V X7R 0805; Part Number: GRJ21BR71H474KE01L; Manufacturer: Murata Electronics North America; Factory Stock: 0; Unit Price (USD): 0.3; Minimum Quantity: 1; Tolerance: ±10%; Datasheets: http://www.murata.com/~/media/webrenewal/support/library/catalog/products/capacitor/mlcc/c02e.pdf; Image: //media.digikey.com/Renders/Murata%20Renders/0805%20(2012%20Metric)%20.85mm.jpg; Digi-Key Part Number: 490-10927-1-ND; Quantity Available: 5048; @ qty: 0; Packaging: Cut Tape (CT); Series: GRJ; Part Status: Active; Value: 0.47µF; Voltage: 50V; Temperature Coefficient: X7R; Operating Temperature: -55°C ~ 125°C; Features: Soft Termination; Ratings: -; Applications: Boardflex Sensitive; Mounting Type: Surface Mount, MLCC; Package / Case: 0805 (2012 Metric); Size / Dimension: 0.079" L x 0.049" W (2.00mm x 1.25mm); Height - Seated (Max): -; Thickness (Max): 0.057" (1.45mm); Lead Spacing: -; Lead Style: -
footprint SMD-0805C
pins: 1, 2

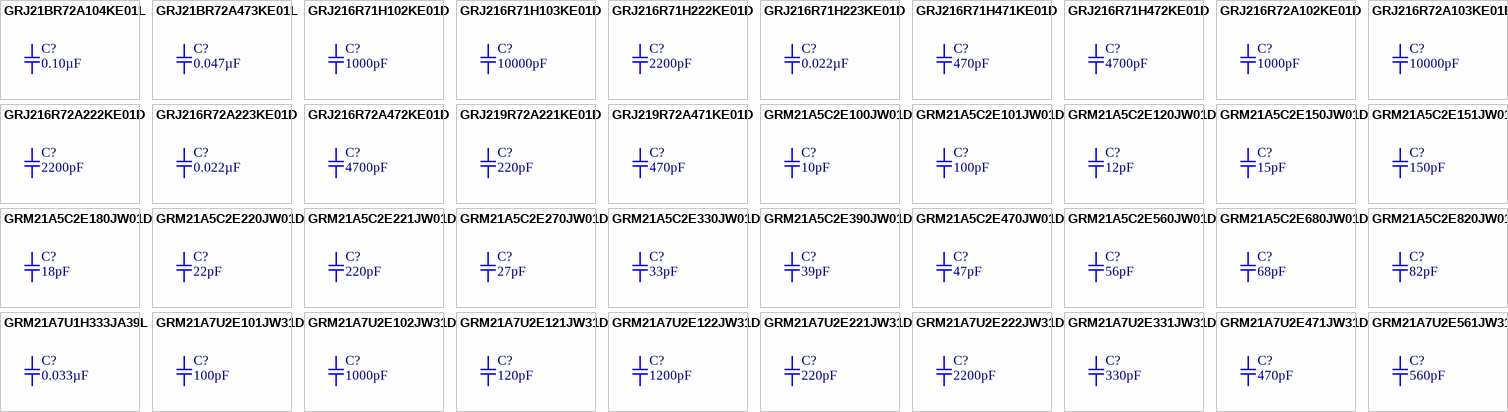
[diagram p5: symbols GRJ21BR72A104KE01L to GRM21A7U2E561JW31D]